# EAGLE library part TPS562209 (library comms)
Buck Switching Regulator IC Positive Adjustable 0.765V 1 Output 2A SOT-23-6 Thin, TSOT-23-6
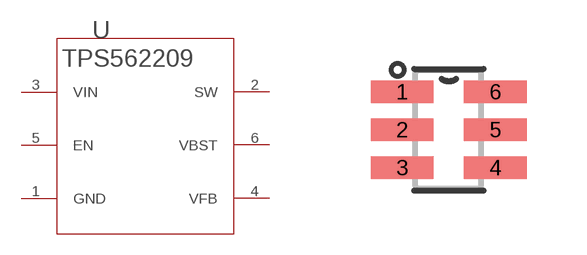
[diagram p0: symbol with the pads of DDC0006A; footprint DDC0006A]

Designator prefix U

## TPS562209DDCR (MANUFACTURER: Texas Instruments; MANUFACTURER_PN: TPS562209DDCT; VALUE: TPS562209DDCT; VENDOR: Digi-Key; VENDOR_PN: 296-37302-1-ND)  [DDC0006A]
1  GND  pwr
2  SW  pwr
3  VIN  pwr
4  VFB  in
5  EN  in
6  VBST  pwr

## Footprint DDC0006A (pad centres in mm)
smd 1.575 x 0.559: 1 -1.168,0.95; 2 -1.168,0; 3 -1.168,-0.95; 4 1.168,-0.95; 5 1.168,0; 6 1.168,0.95